# Altium footprint library WM355-Altium.PcbLib: 20 footprints (part 2 of 2)
Each footprint in its own frame and in the unit in brackets; x right, y up, seen from the top. Pads: shape width x height; smd on the part's side, far side on the other; paste and mask are expansions set on the pad; w line width, h text height; cw(c..) or ccw(c..) is an arc to the next point about the centre after c.
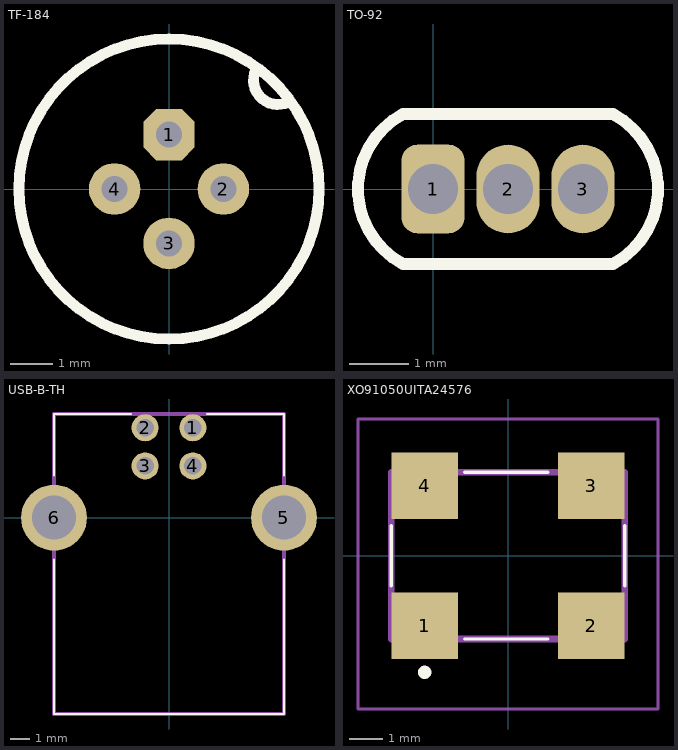
[diagram p1: the footprints below, top view; thin cyan lines are the x and y axes]

## TF-184 [mm] "TF-184 IC socket from Fischer Elektronik"
pads (4):
  oct 1.2x1.2 hole 0.6: 1(0,1.27)
  round 1.2 hole 0.6: 2(1.27,0) 3(0,-1.27) 4(-1.27,0)
Top Overlay:
  circle w0.254: c0,0 r3.5
  lines w0.254: 2.032,2.794 ccw(c2.54,2.54) 2.794,2.032
3D body "TF 184 v2.step": height 7.5, standoff -2.6, extent -3.648,-3.648 3.649,3.649

## TO-92 [mm]
pads (3):
  rrect50% 1.07x1.5 hole 0.85 mask+0.05: 1(0,0)
  oval 1.07x1.5 hole 0.85 mask+0.05: 2(1.27,0) 3(2.54,0)
Top Overlay:
  lines w0.203: -0.508,-1.27 cw(c0.169,0) -0.508,1.27 3.048,1.27 cw(c2.371,0) 3.048,-1.27 -0.508,-1.27
3D body "TLE2426CLP v2.step": height 6.41, standoff -1.42, extent -1.142,-1.34 3.682,2.342

## USB-B-TH [mm]
pads (6):
  round 1.42 hole 0.92: 1(1.25,4.71) 2(-1.25,4.71) 3(-1.25,2.71) 4(1.25,2.71)
  round 3.45 hole 2.3: 5(6.02,0) 6(-6.02,0)
Top Overlay:
  lines w0.1: -6.02,-2.2 -6.02,-10.28 6.02,-10.28 6.02,-2.2 ; -6.02,2.2 -6.02,5.43 -2,5.43 ; 2,5.43 6.02,5.43 6.02,2.2
Mechanical 13:
  lines w0.2: -6.02,-10.28 -6.02,5.43 6.02,5.43 6.02,-10.28 -6.02,-10.28
3D body "292304-1.stp": height 11.53, standoff -3.89, extent -7.195,-10.27 7.195,5.43

## XO91050UITA24576 [mm]
pads (4):
  rect 2x2 smd: 1(-2.5,-2.1) 2(2.5,-2.1) 3(2.5,2.1) 4(-2.5,2.1)
Top Overlay:
  lines w0.1: -3.5,-0.9 -3.5,0.9 ; -1.3,-2.5 1.2,-2.5 ; -1.3,2.5 1.2,2.5 ; 3.5,-0.9 3.5,0.9
  lines w0.2: -2.6,-3.5 cw(c-2.5,-3.5) -2.4,-3.5 cw(c-2.5,-3.5) -2.6,-3.5
Mechanical 13:
  lines w0.2: -3.5,-2.5 3.5,-2.5 3.5,2.5 -3.5,2.5 -3.5,-2.5
Mechanical 15:
  lines w0.1: -4.5,-4.6 4.5,-4.6 4.5,4.1 -4.5,4.1 -4.5,-4.6
3D body "14.7456MHZ_XO91050UITA.stp": height 1.1, standoff 0, extent -3.5,-2.9 3.5,2.9